# Altium schematic symbol library P3_MP3_Player.SchLib: 9 symbols
Pins are listed as number, name and electrical type; pins without a type are passive.

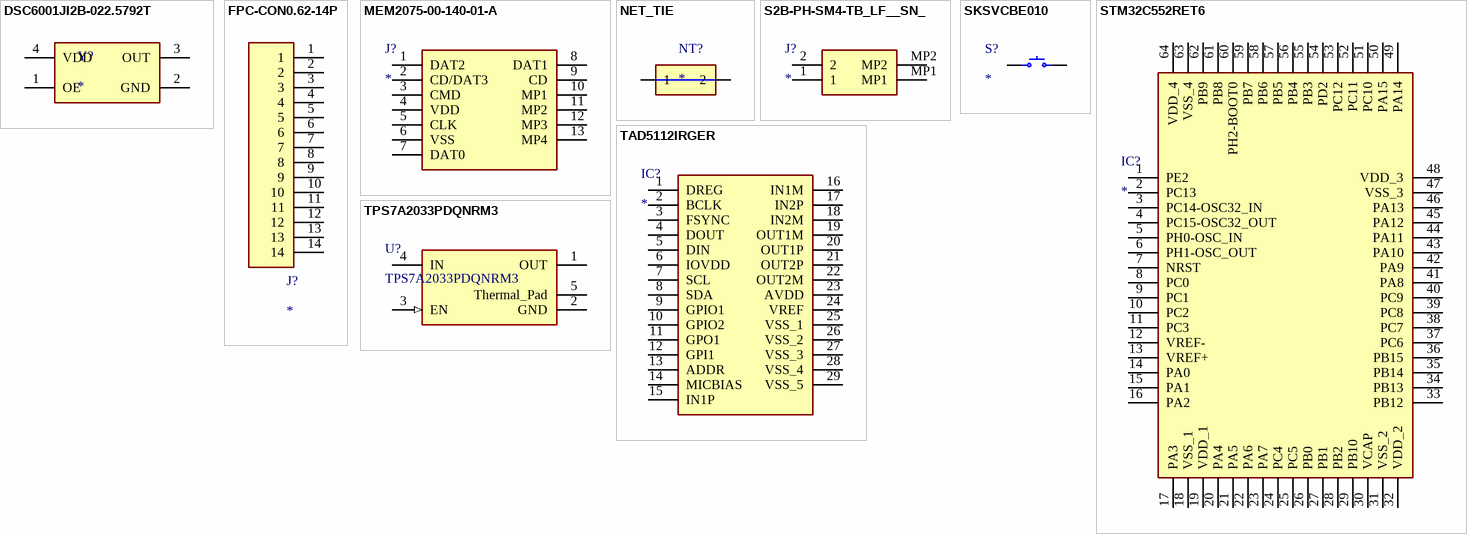
[diagram p0: symbols DSC6001JI2B-022.5792T to TPS7A2033PDQNRM3]

## DSC6001JI2B-022.5792T
designator Y?
22.5792 MHz XO (Standard) CMOS Oscillator 1.71V ~ 3.63V Enable/Disable 4-VLGA; Base Resonator: MEMS; Frequency Stability: ±25ppm; Current Supply (Max): 1.3mA (Typ); Type: XO (Standard); Frequency: 22.5792 MHz; Function: Enable/Disable; Output: CMOS; Voltage - Supply: 1.71V ~ 3.63V; Operating Temperature: -40°C ~ 85°C; Mounting Type: Surface Mount; Package / Case: 4-VLGA; Supplier Device Package: 4-VLGA (2.5x2); Size / Dimension: 0.098" L x 0.079" W (2.50mm x 2.00mm); Height - Seated (Max): 0.035" (0.89mm); ComponentLink1Description: Datasheet; ComponentLink1URL: https://ww1.microchip.com/downloads/aemDocuments/documents/TCG/ProductDocuments/DataSheets/DSC60xxB-Ultra-Small-Ultra-Low-Power-MEMS-Oscillator-DS20006133.pdf; ComponentLink2Description: DigiKey; ComponentLink2URL: https://www.digikey.ca/en/products/detail/microchip-technology/DSC6001JI2B-022-5792T/22212139; Supplier 1: Avnet; Supplier Part Number 1: DSC6001JI2B-022.5792T
footprint 4-VLGA-2.5X2
pins: 1 OE, 2 GND, 3 OUT, 4 VDD

## FPC-CON0.62-14P
designator J?  (no BOM)
FPC Connector 14 Pin 0.62mm Pitch
footprint FPC-CON0.62-14P (FPC Connector 14 Pin 0.62mm Pitch)
pins: 1, 2, 3, 4, 5, 6, 7, 8, 9, 10, 11, 12, 13, 14

## MEM2075-00-140-01-A
designator J?
Connector; Manufacturer_Name: GCT (GLOBAL CONNECTOR TECHNOLOGY); Manufacturer_Part_Number: MEM2075-00-140-01-A; Datasheet Link: http://www.farnell.com/cad/2606866.pdf; Height: 1.45mm; Mouser Part Number: 640-MEM20750014001A; Mouser Price/Stock: https://www.mouser.co.uk/ProductDetail/GCT/MEM2075-00-140-01-A?qs=KUoIvG%2F9IlZvfWpeERlq3Q%3D%3D; DigiKey Link: https://www.digikey.ca/en/products/detail/gct/MEM2075-00-140-01-A/9859614
footprint MEM20750014001A
pins: 1 DAT2, 2 CD/DAT3, 3 CMD, 4 VDD, 5 CLK, 6 VSS, 7 DAT0, 8 DAT1, 9 CD, 10 MP1, 11 MP2, 12 MP3, 13 MP4

## NET_TIE
designator NT?  (net tie, no BOM)
Net Tie
pins: 1, 2

## S2B-PH-SM4-TB_LF__SN_
designator J?
Connector; Manufacturer_Name: JST (JAPAN SOLDERLESS TERMINALS); Manufacturer_Part_Number: S2B-PH-SM4-TB(LF)(SN); Datasheet Link: https://www.jst-mfg.com/product/pdf/eng/ePH.pdf; Height: 6.6mm; Mouser Part Number: N/A; Mouser Price/Stock: https://www.mouser.co.uk/ProductDetail/JST-Commercial/S2B-PH-SM4-TBLFSN?qs=QpmGXVUTftEA9IU90i0xlg%3D%3D; Arrow Part Number: S2B-PH-SM4-TB(LF)(SN); Arrow Price/Stock: https://www.arrow.com/en/products/s2b-ph-sm4-tb-lf-sn/jst-manufacturing?utm_currency=USD&region=europe
footprint S2BPHSM4TBLFSN
pins: 1, 2, MP1, MP2

## SKSVCBE010
designator S?
Switch; Manufacturer_Name: ALPS Electric; Manufacturer_Part_Number: SKSVCBE010; Datasheet Link: https://tech.alpsalpine.com/e/products/detail/SKSVCBE010/; Height: 0.65mm; Mouser Part Number: 688-SKSVCBE010; Mouser Price/Stock: https://www.mouser.co.uk/ProductDetail/Alps-Alpine/SKSVCBE010?qs=Jm2GQyTW%2Fbim%2FQWWFLRejw%3D%3D; Digikey Link: https://www.digikey.ca/en/products/detail/alps-alpine/SKSVCBE010/26519632
footprint SKSVCBE010
pins: 1, 2, 3, 4

## STM32C552RET6
designator IC?
Integrated Circuit; Manufacturer_Name: STMicroelectronics; Manufacturer_Part_Number: STM32C552RET6; Description: Arm? Cortex?-M33 32-bit MCU with FPU; Datasheet Link: https://www.st.com/resource/en/datasheet/stm32c551cc.pdf; Height: 1.6mm; Arrow Part Number: STM32C552RET6; Arrow Price/Stock: https://www.arrow.com/en/products/stm32c552ret6/stmicroelectronics.html?utm_currency=USD&region=nac
footprint QFP50P1200X1200X160-64N
pins: 1 PE2, 2 PC13, 3 PC14-OSC32_IN, 4 PC15-OSC32_OUT, 5 PH0-OSC_IN, 6 PH1-OSC_OUT, 7 NRST, 8 PC0, 9 PC1, 10 PC2, 11 PC3, 12 VREF-, 13 VREF+, 14 PA0, 15 PA1, 16 PA2, 17 PA3, 18 VSS_1, 19 VDD_1, 20 PA4, 21 PA5, 22 PA6, 23 PA7, 24 PC4, 25 PC5, 26 PB0, 27 PB1, 28 PB2, 29 PB10, 30 VCAP, 31 VSS_2, 32 VDD_2, 33 PB12, 34 PB13, 35 PB14, 36 PB15, 37 PC6, 38 PC7, 39 PC8, 40 PC9, 41 PA8, 42 PA9, 43 PA10, 44 PA11, 45 PA12, 46 PA13, 47 VSS_3, 48 VDD_3, 49 PA14, 50 PA15, 51 PC10, 52 PC11, 53 PC12, 54 PD2, 55 PB3, 56 PB4, 57 PB5, 58 PB6, 59 PB7, 60 PH2-BOOT0, 61 PB8, 62 PB9, 63 VSS_4, 64 VDD_4

## TAD5112IRGER
designator IC?
Integrated Circuit; Manufacturer_Name: Texas Instruments; Manufacturer_Part_Number: TAD5112IRGER; Datasheet Link: https://www.ti.com/lit/gpn/tad5112; Height: 1mm; DigiKey Link: https://www.digikey.ca/en/products/detail/texas-instruments/TAD5112IRGER/26251062
footprint TAD5112IRGER
pins: 1 DREG, 2 BCLK, 3 FSYNC, 4 DOUT, 5 DIN, 6 IOVDD, 7 SCL, 8 SDA, 9 GPIO1, 10 GPIO2, 11 GPO1, 12 GPI1, 13 ADDR, 14 MICBIAS, 15 IN1P, 16 IN1M, 17 IN2P, 18 IN2M, 19 OUT1M, 20 OUT1P, 21 OUT2P, 22 OUT2M, 23 AVDD, 24 VREF, 25 VSS_1, 26 VSS_2, 27 VSS_3, 28 VSS_4, 29 VSS_5

## TPS7A2033PDQNRM3
designator U?
300mA ultra-low-noise low-IQ low-dropout (LDO) linear regulator with high PSRR 4-X2SON -40 to 125; Manufacturer_Name: Texas Instruments; TYPE: TYPE; RefDes: RefDes; Copyright: Copyright (C) 2026 Ultra Librarian. All rights reserved.; Manufacturer_Part_Number: TPS7A2033PDQNRM3
footprint DQN0004A-MFG
pins: 1 OUT, 2 GND (power), 3 EN (in), 4 IN (power), 5 Thermal_Pad